# EAGLE library part 2512- (library Simplex-Connectors)
3M (TM) Pak 100 4-Wall Header Source: 3M
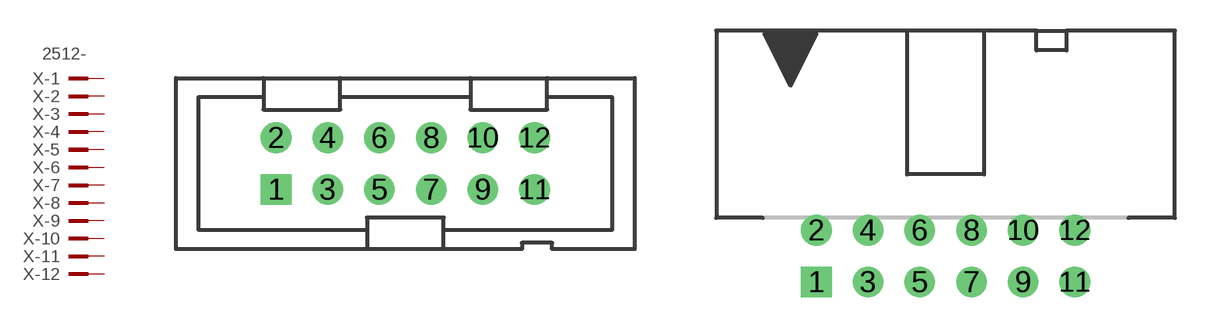
[diagram p2: symbol with the pads of PAK100/2500-12; footprints PAK100/2500-12, PAK100/2500-5-12]

Designator prefix X; gates -1=PINV -2=PIN -3=PIN -4=PIN -5=PIN -6=PIN -7=PIN -8=PIN -9=PIN -10=PIN -11=PIN -12=PIN

## 2512- (OC_FARNELL: unknown; OC_NEWARK: unknown)  [PAK100/2500-12]
1  -1:KL  pas
2  -2:KL  pas
3  -3:KL  pas
4  -4:KL  pas
5  -5:KL  pas
6  -6:KL  pas
7  -7:KL  pas
8  -8:KL  pas
9  -9:KL  pas
10  -10:KL  pas
11  -11:KL  pas
12  -12:KL  pas

## 2512-5 (MPN: N2514-5002RB; OC_FARNELL: 1788673; OC_NEWARK: 97K6709)  [PAK100/2500-5-12]
Pads as for PAK100/2500-12

## 2512-ALTNUM  [PAK100/2500-12-ALT]
Pads as for PAK100/2500-12

## Footprint PAK100/2500-12 (pad centres in mm)
3M (TM) Pak 100 4-Wall Header Straight Source: 3M
drill 1 pad 1.422 square: 1 -6.35,-1.27
drill 1 pad 1.422: 2 -6.35,1.27; 3 -3.81,-1.27; 4 -3.81,1.27; 5 -1.27,-1.27; 6 -1.27,1.27; 7 1.27,-1.27; 8 1.27,1.27; 9 3.81,-1.27; 10 3.81,1.27; 11 6.35,-1.27; 12 6.35,1.27

## Footprint PAK100/2500-5-12 (pad centres in mm)
3M (TM) Pak 100 4-Wall Header Right Angle Source: 3M
drill 1 pad 1.422 square: 1 -6.35,-1.27
drill 1 pad 1.422: 2 -6.35,1.27; 3 -3.81,-1.27; 4 -3.81,1.27; 5 -1.27,-1.27; 6 -1.27,1.27; 7 1.27,-1.27; 8 1.27,1.27; 9 3.81,-1.27; 10 3.81,1.27; 11 6.35,-1.27; 12 6.35,1.27

## Footprint PAK100/2500-12-ALT (pad centres in mm)
PAK100/2500-12-ALT 0.1" 12pin connector, alternate numbering
drill 1 pad 1.422 square: 1 -6.35,-1.27
drill 1 pad 1.422: 2 -3.81,-1.27; 3 -1.27,-1.27; 4 1.27,-1.27; 5 3.81,-1.27; 6 6.35,-1.27; 7 -6.35,1.27; 8 -3.81,1.27; 9 -1.27,1.27; 10 1.27,1.27; 11 3.81,1.27; 12 6.35,1.27